# EAGLE library part ATSAMD5X/E5XN (library borkedlabs-micros)
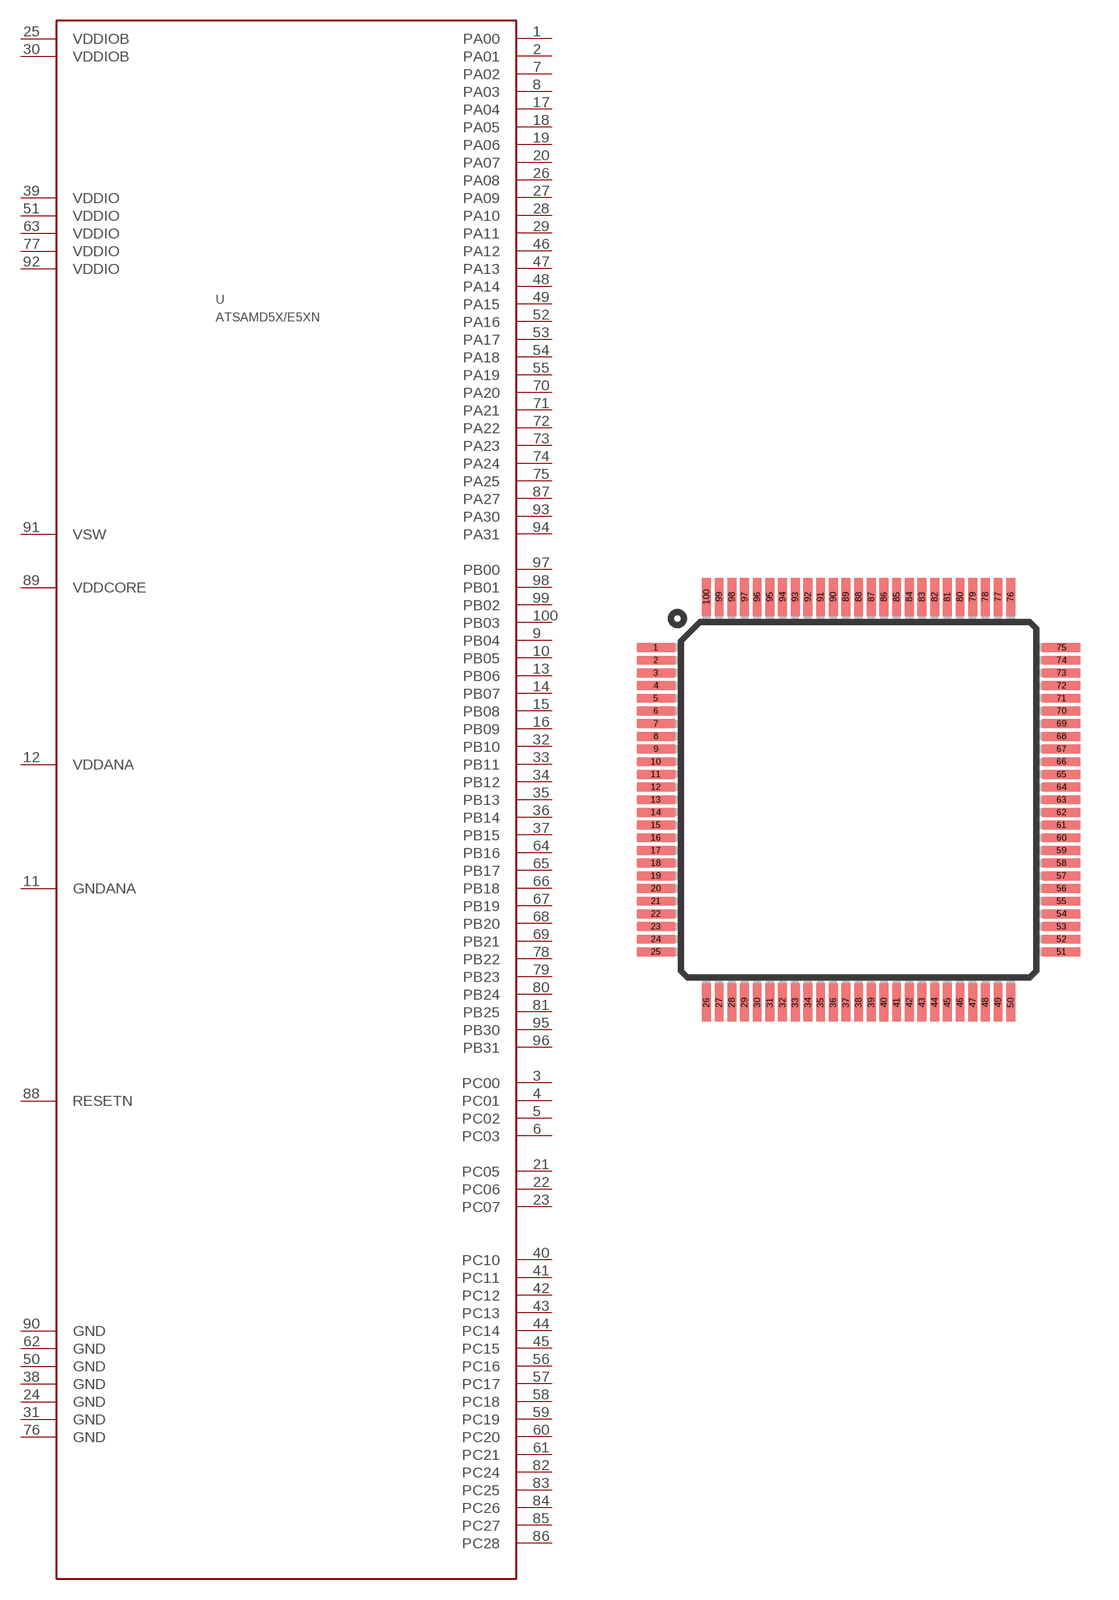
[diagram p12: symbol with the pads of TQFP100; footprint TQFP100]

Designator prefix U

## ATSAMD5X/E5XNXXA-A (PACKAGE: TQFP100)  [TQFP100]
1  PA00
2  PA01
3  PC00
4  PC01
5  PC02
6  PC03
7  PA02
8  PA03
9  PB04
10  PB05
11  GNDANA
12  VDDANA
13  PB06
14  PB07
15  PB08
16  PB09
17  PA04
18  PA05
19  PA06
20  PA07
21  PC05
22  PC06
23  PC07
24  GND
25  VDDIOB
26  PA08
27  PA09
28  PA10
29  PA11
30  VDDIOB
31  GND
32  PB10
33  PB11
34  PB12
35  PB13
36  PB14
37  PB15
38  GND
39  VDDIO
40  PC10
41  PC11
42  PC12
43  PC13
44  PC14
45  PC15
46  PA12
47  PA13
48  PA14
49  PA15
50  GND
51  VDDIO
52  PA16
53  PA17
54  PA18
55  PA19
56  PC16
57  PC17
58  PC18
59  PC19
60  PC20
61  PC21
62  GND
63  VDDIO
64  PB16
65  PB17
66  PB18
67  PB19
68  PB20
69  PB21
70  PA20
71  PA21
72  PA22
73  PA23
74  PA24
75  PA25
76  GND
77  VDDIO
78  PB22
79  PB23
80  PB24
81  PB25
82  PC24
83  PC25
84  PC26
85  PC27
86  PC28
87  PA27
88  RESETN
89  VDDCORE
90  GND
91  VSW
92  VDDIO
93  PA30
94  PA31
95  PB30
96  PB31
97  PB00
98  PB01
99  PB02
100  PB03

## Footprint TQFP100 (pad centres in mm)
100-lead Thin Quad Flat Pack Package
smd 1.5 x 0.35: 1 -8,6; 2 -8,5.5; 3 -8,5; 4 -8,4.5; 5 -8,4; 6 -8,3.5; 7 -8,3; 8 -8,2.5; 9 -8,2; 10 -8,1.5; 11 -8,1; 12 -8,0.5; 13 -8,0; 14 -8,-0.5; 15 -8,-1; 16 -8,-1.5; 17 -8,-2; 18 -8,-2.5; 19 -8,-3; 20 -8,-3.5; 21 -8,-4; 22 -8,-4.5; 23 -8,-5; 24 -8,-5.5; 25 -8,-6; 51 8,-6; 52 8,-5.5; 53 8,-5; 54 8,-4.5; 55 8,-4; 56 8,-3.5; 57 8,-3; 58 8,-2.5; 59 8,-2; 60 8,-1.5; 61 8,-1; 62 8,-0.5; 63 8,0; 64 8,0.5; 65 8,1; 66 8,1.5; 67 8,2; 68 8,2.5; 69 8,3; 70 8,3.5; 71 8,4; 72 8,4.5; 73 8,5; 74 8,5.5; 75 8,6
smd 0.35 x 1.5: 26 -6,-8; 27 -5.5,-8; 28 -5,-8; 29 -4.5,-8; 30 -4,-8; 31 -3.5,-8; 32 -3,-8; 33 -2.5,-8; 34 -2,-8; 35 -1.5,-8; 36 -1,-8; 37 -0.5,-8; 38 0,-8; 39 0.5,-8; 40 1,-8; 41 1.5,-8; 42 2,-8; 43 2.5,-8; 44 3,-8; 45 3.5,-8; 46 4,-8; 47 4.5,-8; 48 5,-8; 49 5.5,-8; 50 6,-8; 76 6,8; 77 5.5,8; 78 5,8; 79 4.5,8; 80 4,8; 81 3.5,8; 82 3,8; 83 2.5,8; 84 2,8; 85 1.5,8; 86 1,8; 87 0.5,8; 88 0,8; 89 -0.5,8; 90 -1,8; 91 -1.5,8; 92 -2,8; 93 -2.5,8; 94 -3,8; 95 -3.5,8; 96 -4,8; 97 -4.5,8; 98 -5,8; 99 -5.5,8; 100 -6,8